# Altium footprint library AA3528VRVFS_A.PcbLib: 1 footprints
Each footprint in its own frame and in the unit in brackets; x right, y up, seen from the top. Pads: shape width x height; smd on the part's side, far side on the other; paste and mask are expansions set on the pad; w line width, h text height; cw(c..) or ccw(c..) is an arc to the next point about the centre after c.
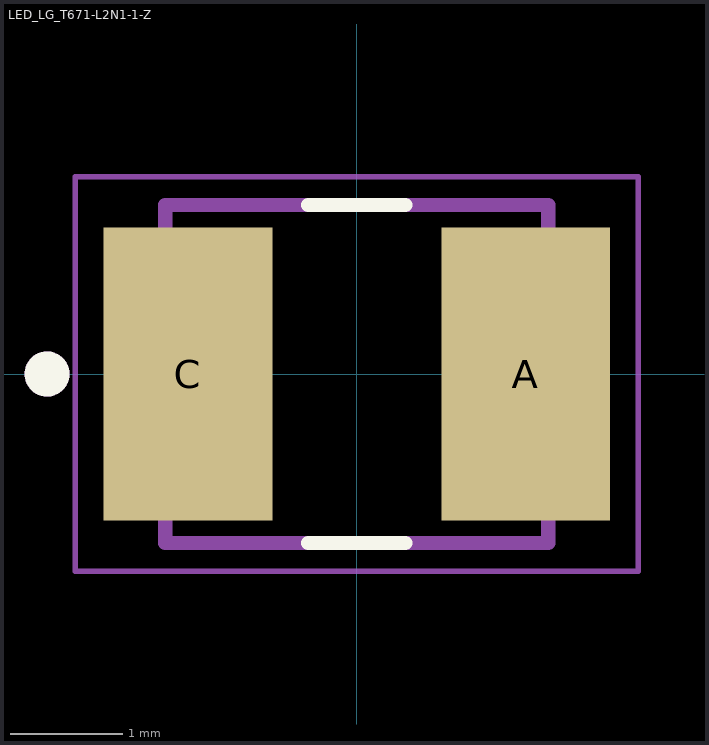
[diagram p0: the footprint, top view; thin cyan lines are the x and y axes]

## LED_LG_T671-L2N1-1-Z [mm]
pads (2):
  rect 1.5x2.6 smd: A(1.5,0) C(-1.5,0)
Top Overlay:
  circle w0.2: c-2.75,0 r0.1
  lines w0.127: -0.43,-1.5 0.43,-1.5 ; -0.43,1.5 0.43,1.5
Mechanical 13:
  circle w0.2: c-2.75,0 r0.1
  lines w0.127: -1.7,-1.5 -1.7,1.5 1.7,1.5 1.7,-1.5 -1.7,-1.5
Mechanical 15:
  lines w0.05: -2.5,-1.75 -2.5,1.75 2.5,1.75 2.5,-1.75 -2.5,-1.75